# EAGLE library part 6620XX230822_662006230822 (library Wurth_Connectors_WR-MPC3)
WR-MPC3 3.00 mm SMT Male Dual Row Angled Header with THT Retention Clip KIND PROPERTIES Pitch 3 mm Gender Male MATERIAL PROPERTIES Insulator Material LCP Insulator Flammability Rating UL94 V-0 Insulator Color Black Contact Material Copper Alloy Contact Plating Tin Contact Type Stamped GENERAL INFORMATION Operating Temperature -40 up to +105 °C Compliance:RoHS Working Voltage 250 V (AC) Withstanding Voltage 1500 V (AC) Contact Resistance 10 mΩ RISO 1000 MΩ CERTIFICATION UL Approval E323964 WIRE PROPERTIES Packaging Tube <https://katalog.we-online.com/media/images/v2/o33175v209%20Family_WR-MPC3_662xxx230822.jpg> Details see: hhttps://katalog.we-online.com/en/em/MPC3_3_00_SMT_MALE_DUAL_ROW_ANGLED_HEADER_W_THT_RETENTION_CLIP_6620XX230822 Created by Yingchun,Shan 2019-11-14 2019 (C) Würth Elektronik
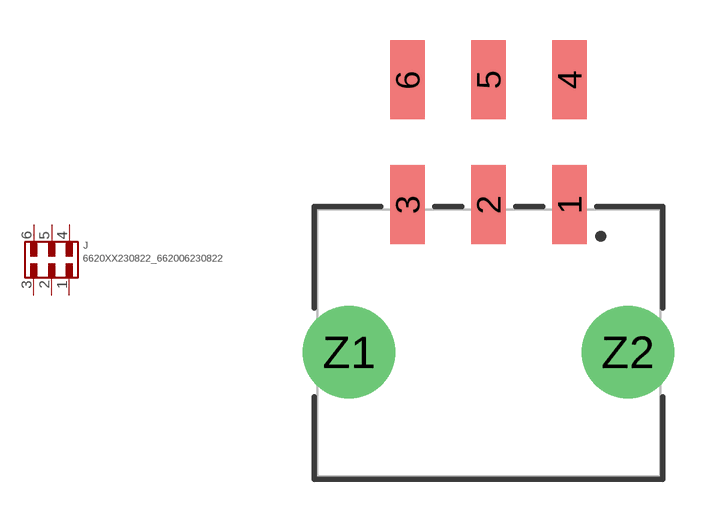
[diagram p93: symbol with the pads of 662006230822; footprint 662006230822]

Designator prefix J

## 6620XX230822_662006230822 (CONTACT-RESISTANCE: 10Ohm; DATASHEET-URL: https://www.we-online.com/redexpert/spec/662006230822?ae; GENDER: Male; IR: 5A; MOUNT: SMT; PART-NUMBER: 662006230822; PINS: 6; PITCH: 3mm; ROWS: Dual; TOL-R: max.; TYPE: Right Angled; VALUE: 662006230822; WORKING-VOLTAGE: 250V(AC))  [662006230822]
1  1  pas
2  2  pas
3  3  pas
4  4  pas
5  5  pas
6  6  pas

## Footprint 662006230822 (pad centres in mm)
WR-MPC3 3.00 mm SMT Male Dual Row Angled Header with THT Retention Clip, 6 Pins
smd 1.27 x 2.92: 1 3,5.13; 2 0,5.13; 3 -3,5.13; 4 3,9.75; 5 0,9.75; 6 -3,9.75
drill 2.41: Z1 -5.16,-0.35; Z2 5.16,-0.35